# Altium footprint library B3B-ZR-SM4-TF.PcbLib: 1 footprints
Each footprint in its own frame and in the unit in brackets; x right, y up, seen from the top. Pads: shape width x height; smd on the part's side, far side on the other; paste and mask are expansions set on the pad; w line width, h text height; cw(c..) or ccw(c..) is an arc to the next point about the centre after c.
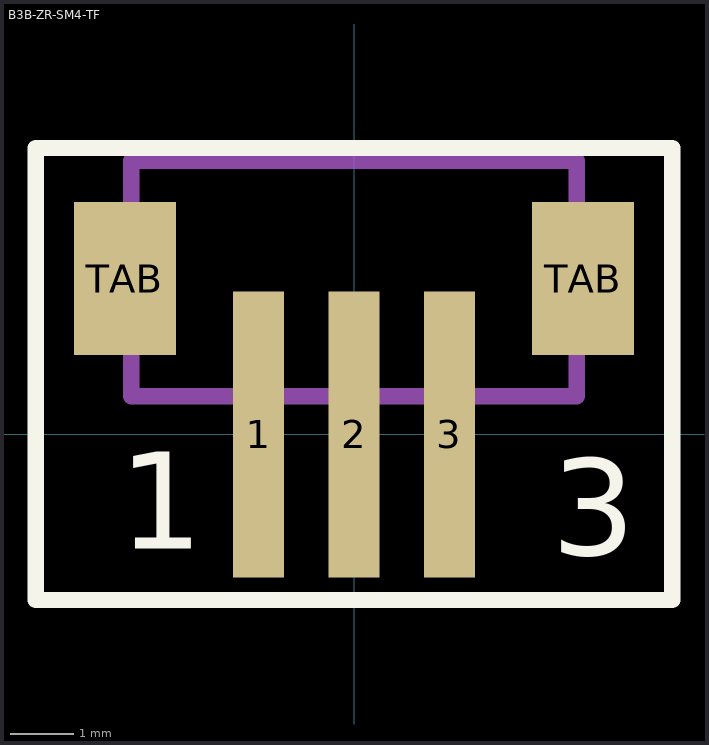
[diagram p0: the footprint, top view; thin cyan lines are the x and y axes]

## B3B-ZR-SM4-TF [mm] "3 pin JST ZR series top entry surface mount connector header B3B-ZR-SM4-TF"
height 8
pads (5):
  rect 0.8x4.5 smd: 1(-1.5,0) 2(0,0) 3(1.5,0)
  rect 1.6x2.4 smd: TAB(-3.6,2.45) TAB(3.6,2.45)
Top Overlay:
  lines w0.254: -5,-2.6 -2.4,-2.6 2.4,-2.6 3.225,-2.6 4.275,-2.6 5,-2.6 5,4.5 -5,4.5 -5,-2.6
  text "1" at -3.7,-1.8 h1.52
  text "3" at 3.1,-1.9 h1.52
Mechanical 13:
  lines w0.254: -3.5,0.6 3.5,0.6 3.5,4.3 -3.5,4.3 -3.5,0.6
3D body: height 5, standoff 0, extent -3.8,-1 3.7,4.2